# EAGLE library part BLM9H0610S-60PG (library My_Library_2)
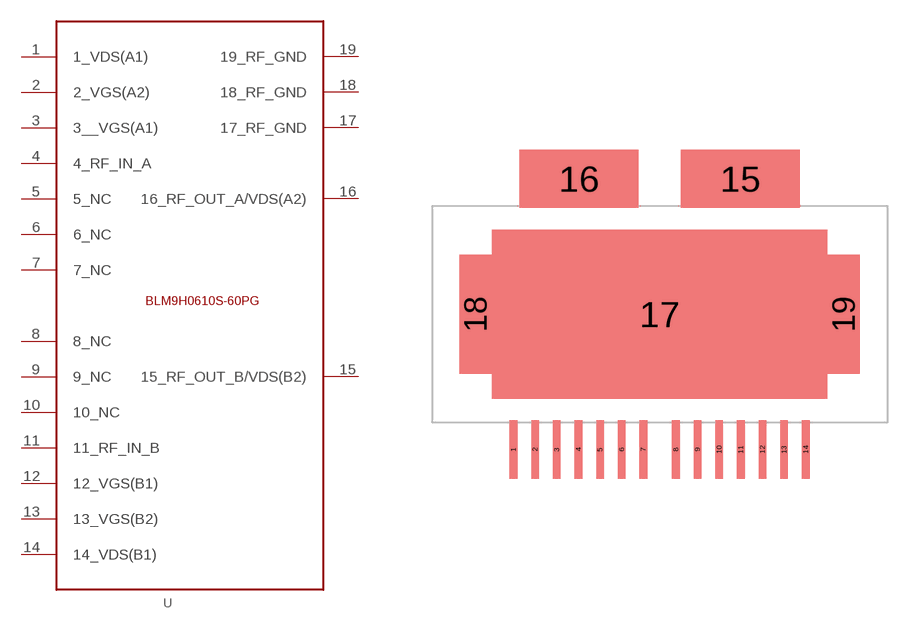
[diagram p14: symbol with the pads of BLM9H0610S-60PG; footprint BLM9H0610S-60PG]

Designator prefix -

## BLM9H0610S-60PG  [BLM9H0610S-60PG]
1  1_VDS(A1)
2  2_VGS(A2)
3  3__VGS(A1)
4  4_RF_IN_A
5  5_NC
6  6_NC
7  7_NC
8  8_NC
9  9_NC
10  10_NC
11  11_RF_IN_B
12  12_VGS(B1)
13  13_VGS(B2)
14  14_VDS(B1)
15  15_RF_OUT_B/VDS(B2)
16  16_RF_OUT_A/VDS(A2)
17  17_RF_GND
18  18_RF_GND
19  19_RF_GND

## Footprint BLM9H0610S-60PG (pad centres in mm)
smd 0.35 x 2.7: 1 -6.75,-6.25; 2 -5.75,-6.25; 3 -4.75,-6.25; 4 -3.75,-6.25; 5 -2.75,-6.25; 6 -1.75,-6.25; 7 -0.75,-6.25; 8 0.75,-6.25; 9 1.75,-6.25; 10 2.75,-6.25; 11 3.75,-6.25; 12 4.75,-6.25; 13 5.75,-6.25; 14 6.75,-6.25
smd 5.5 x 2.7: 15 3.725,6.25; 16 -3.725,6.25
smd 15.5 x 7.8: 17 0,0
smd 1.5 x 5.5: 18 -8.5,0; 19 8.5,0